# Altium footprint library XH 7 pin.PcbLib: 2 footprints
Each footprint in its own frame and in the unit in brackets; x right, y up, seen from the top. Pads: shape width x height; smd on the part's side, far side on the other; paste and mask are expansions set on the pad; w line width, h text height; cw(c..) or ccw(c..) is an arc to the next point about the centre after c.
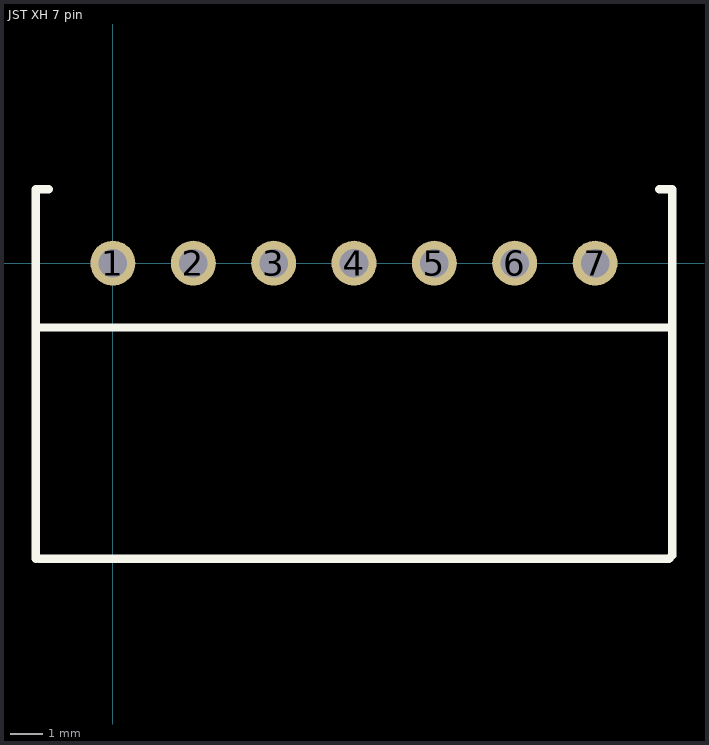
[diagram p0: the footprints below, top view; thin cyan lines are the x and y axes]

## JST XH 7 pin [mil]
pads (7):
  round 55 hole 35: 1(0,0) 2(98.43,0) 3(196.85,0) 4(295.28,0) 5(393.7,0) 6(492.13,0) 7(590.55,0)
Top Overlay:
  lines w10: -94.49,-362.2 -94.49,-314.96 -94.49,0 ; -94.49,-78.74 610.24,-78.74 ; -94.49,-11.81 -94.49,90.55 -78.74,90.55 ; -90.55,-362.2 51.18,-362.2 ; -7.87,-362.2 657.48,-362.2 ; 590.55,-78.74 685.04,-78.74 ; 653.54,-362.2 681.1,-362.2 685.04,-358.27 685.04,3.94 ; 669.29,90.55 685.04,90.55 685.04,0

## PCBComponent_1 [mil]